# Altium schematic symbol library CAP_1uF_805.SchLib: 1 symbol
Pins are listed as number, name and electrical type; pins without a type are passive.

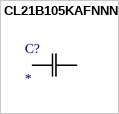
[diagram p0: symbol CL21B105KAFNNNE]

## CL21B105KAFNNNE
designator C?
No Description Available; Mfr_Name: Samsung
footprint CAP_CL21B105KAFNNNE_SAM
pins: 1, 2